# Altium footprint library BluePill.PcbLib: 2 footprints
Each footprint in its own frame and in the unit in brackets; x right, y up, seen from the top. Pads: shape width x height; smd on the part's side, far side on the other; paste and mask are expansions set on the pad; w line width, h text height; cw(c..) or ccw(c..) is an arc to the next point about the centre after c.
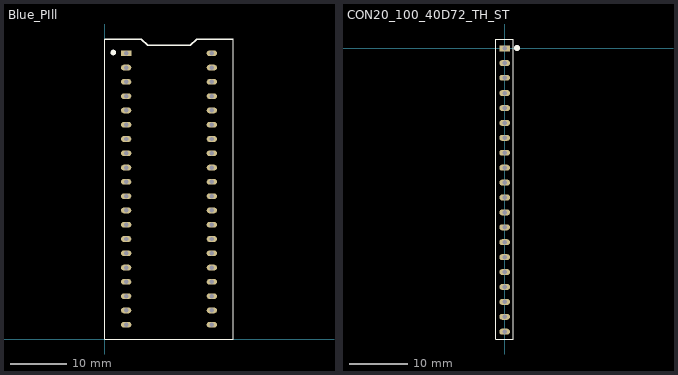
[diagram p0: the footprints below, top view; thin cyan lines are the x and y axes]

## Blue_PIll [mil]
pads (41):
  rect 72x40 hole 31.5: 1(150,2000)
  oval 72x40 hole 31.5: 2(150,1900) 3(150,1800) 4(150,1700) 5(150,1600) 6(150,1500) 7(150,1400) 8(150,1300) 9(150,1200) 10(150,1100) 11(150,1000) 12(150,900) 13(150,800) 14(150,700) 15(150,600) 16(150,500) 17(150,400) 18(150,300) 19(150,200) 20(150,100) 21(750,100) 22(750,200) 23(750,300) 24(750,400) 25(750,500) 26(750,600) 27(750,700) 28(750,800) 29(750,900) 30(750,1000) 31(750,1100) 32(750,1200) 33(750,1300) 34(750,1400) 35(750,1500) 36(750,1600) 37(750,1700) 38(750,1800) 39(750,1900) 40(750,2000)
  round 40 on Top Overlay: ""(60,2005)
Top Overlay:
  lines w7.87: 0,2100 0,0 900,0 900,2100
  lines w10: 0,2100 255,2100 300,2055 600,2055 645,2100 900,2100

## CON20_100_40D72_TH_ST [mil] "Berg strip"
height 393.7
pads (21):
  rect 72x40 hole 31.5: 1(0,0)
  oval 72x40 hole 31.5: 2(0,-98.43) 3(0,-196.85) 4(0,-300) 5(0,-400) 6(0,-500) 7(0,-600) 8(0,-700) 9(0,-800) 10(0,-900) 11(0,-1000) 12(0,-1100) 13(0,-1200) 14(0,-1300) 15(0,-1400) 16(0,-1500) 17(0,-1600) 18(0,-1700) 19(0,-1800) 20(0,-1900)
  round 40 on Top Overlay: ""(83,2.57)
Top Overlay:
  lines w7.87: -58,-1949 -58,62.99 57,62.99 57,-1949 -58,-1949